# Altium schematic symbol library MP1584EN-LF-P.SchLib: 1 symbol
Pins are listed as number, name and electrical type; pins without a type are passive.

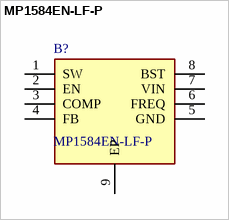
[diagram p0: symbol MP1584EN-LF-P]

## MP1584EN-LF-P
designator B?
Switching Voltage Regulators NRFND: USE MP2338 as replacement; Manufacturer_Name: Monolithic Power Systems (MPS); Geometry.Height: 1.7mm; Manufacturer_Part_Number: MP1584EN-LF-P; Mouser Part Number: 946-MP1584EN-LF-P; Mouser Price/Stock: https://www.mouser.co.uk/ProductDetail/Monolithic-Power-Systems-MPS/MP1584EN-LF-P?qs=%252B6g0mu59x7Ie1GinT4nULQ%3D%3D; Arrow Part Number: *; Arrow Price/Stock: *; Datasheet Link: https://componentsearchengine.com/Datasheets/1/MP1584EN-LF-P.pdf
footprint SOIC127P600X170-9N
pins: 1 SW, 2 EN, 3 COMP, 4 FB, 5 GND, 6 FREQ, 7 VIN, 8 BST, 9 EP